# Altium integrated library Analog Devices Data Converters Digital-to-Analog Converters.IntLib: 2231 symbols (part 84 of 181)
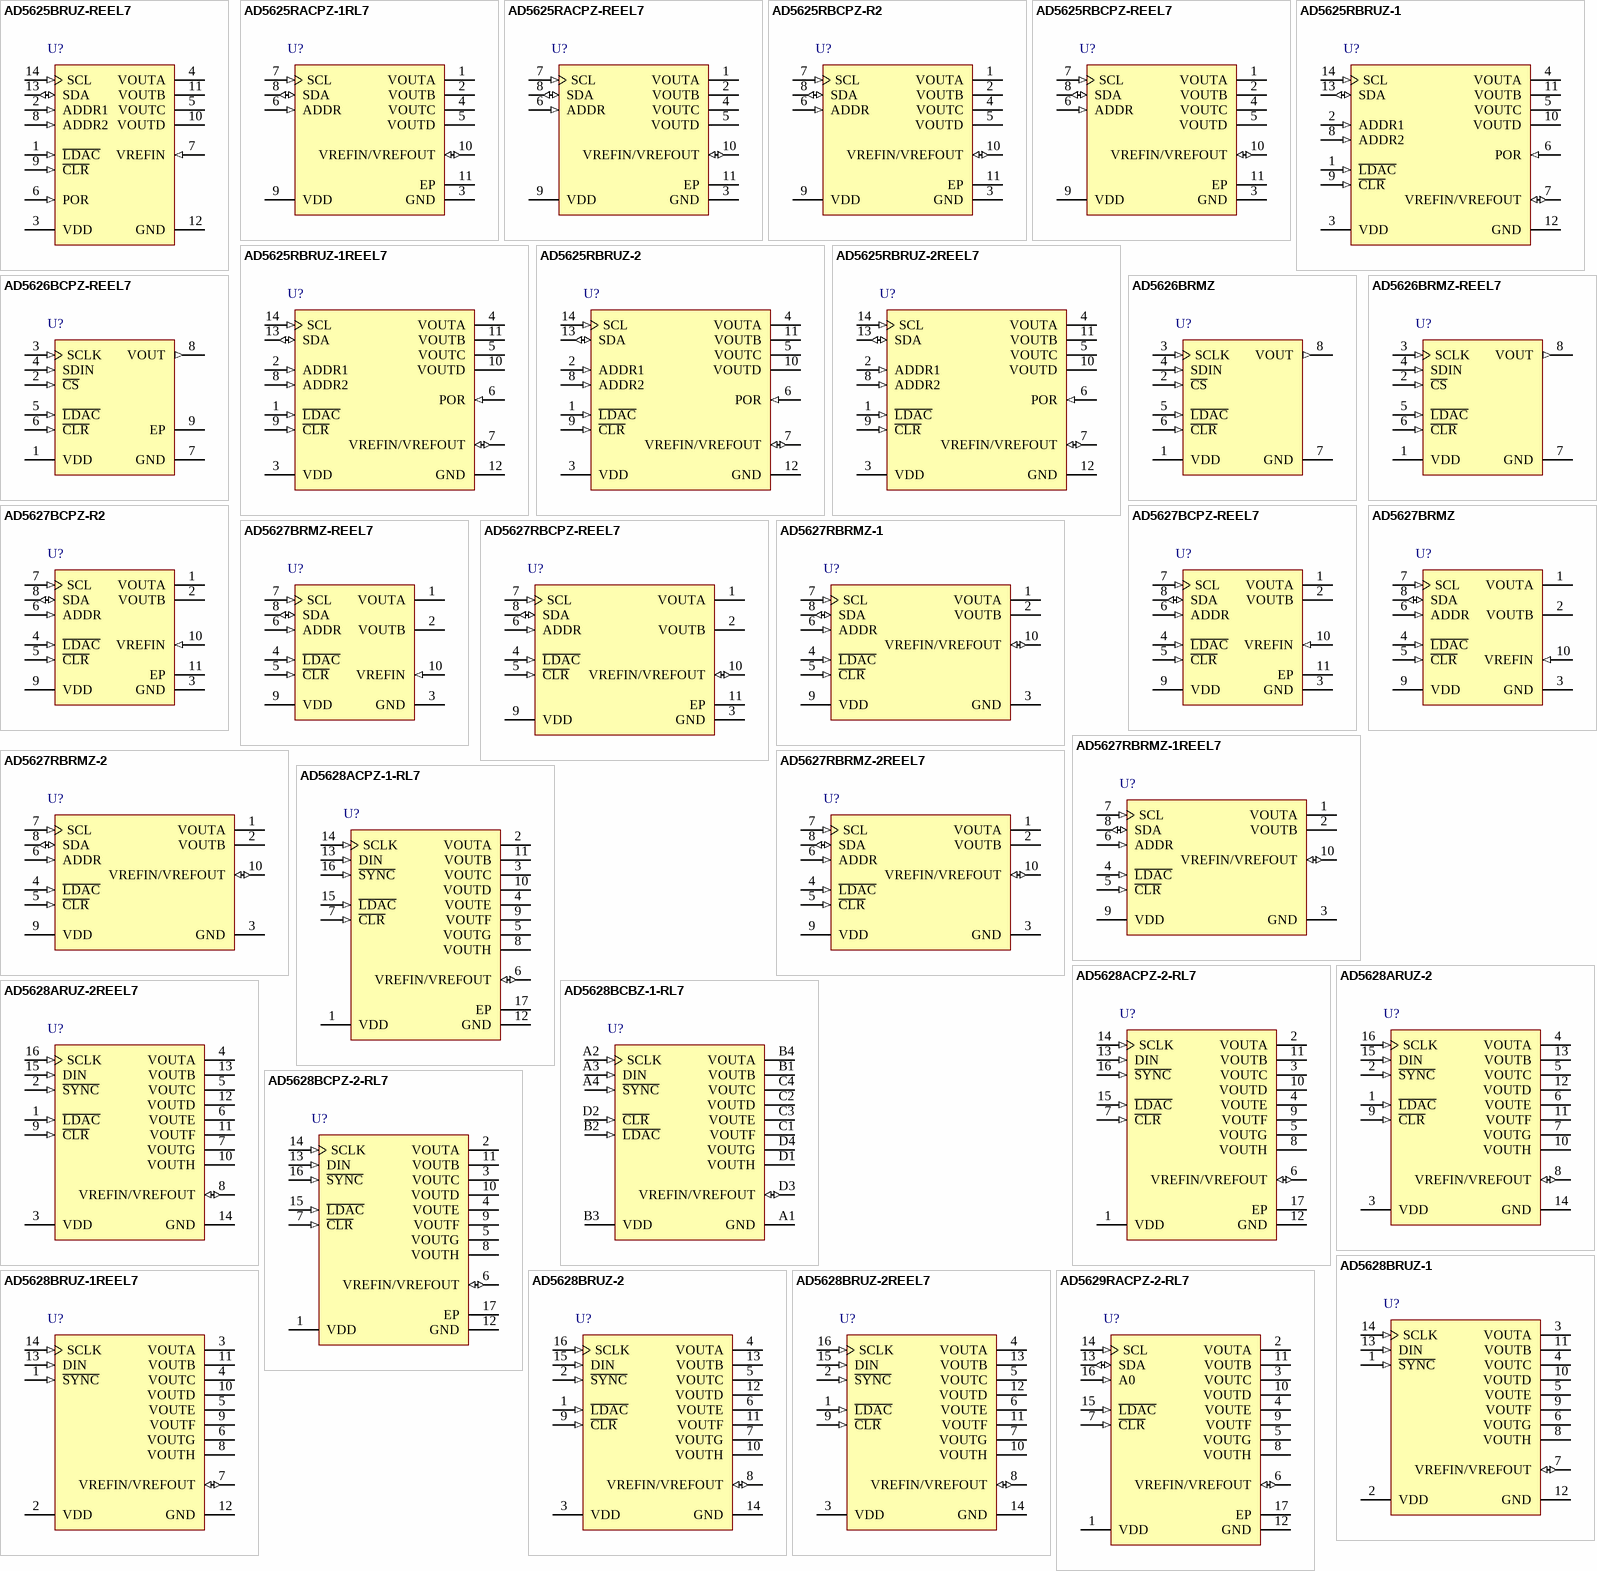
[diagram p197: symbols AD5625BRUZ-REEL7 to AD5629RACPZ-2-RL7]

## AD5627RBRMZ-2
designator U?
Dual 12-Bit nanoDAC with I2C Interface and 5 ppm/degC On-Chip Reference, -40 to +105 degC, RM-10, Pb-Free, Tube; Generic Part Number: AD5627R; Manufacturer: Analog Devices; PartNumber: AD5627RBRMZ-2; # DAC Outputs: 2; Max V+: 5.5V; Op Pwr Diss: 5.75mW; Resolution (Bits): 12; Settling Time: 3µs; Single Supply: Yes; DatasheetVersion: Rev.0; PackageVersion: May-2005; PackageReference: RM-10; PackageDescription: 10-Lead Mini Small Outline Package [MSOP]; Supplier 1: Digi-Key; Supplier Part Number 1: AD5627RBRMZ-2-ND; Supplier 2: Farnell; Supplier Part Number 2: 1438919; Supplier 3: Newark; Supplier Part Number 3: 15P0704; Supplier 4: Mouser; Supplier Part Number 4: 584-AD5627RBRMZ-2; Packing: Tube; RoHS: Y; Mounting Technology: Surface Mount; ComponentLink1Description: Manufacturer URL; ComponentLink1URL: http://www.analog.com/en/index.html; ComponentLink2Description: Datasheet; ComponentLink2URL: http://www.analog.com/static/imported-files/data_sheets/AD5627R_5647R_5667R_5627_5667.pdf; ComponentLink3Description: Package Specification; ComponentLink3URL: http://www.analog.com/static/imported-files/packages/PKG_PDF/MSOP%28RM%29/RM_10.pdf; ComponentLink4Description: Product URL; ComponentLink4URL: http://www.analog.com/en/digital-to-analog-converters/da-converters/ad5627r/products/product.html
footprint RM-10_N (TSSOP, 10-Leads, Body 3x3mm, Pitch 0.5mm, IPC Medium Density)
footprint RM-10_L (TSSOP, 10-Leads, Body 3x3mm, Pitch 0.5mm, IPC High Density)
footprint RM-10_M (TSSOP, 10-Leads, Body 3x3mm, Pitch 0.5mm, IPC Low Density)
pins: 1 VOUTA (hiz) "Analog Output Voltage from DAC A. The output amplifier has rail-to-rail operation.", 2 VOUTB (hiz) "Analog Output Voltage from DAC B. The output amplifier has rail-to-rail operation.", 3 GND (power) "Ground reference point for all circuitry on the part.", 4 ~{LDAC} (in) "Pulsing this pin low allows any or all DAC registers to be updated if the inputs have new data. This allows simultaneous updates of all DAC outputs. Alternatively, this pin can be tied permanently low.", 5 ~{CLR} (in) "Asynchronous Clear Input. The C\L\R\ input is falling-edge sensitive. While C\L\R\ is low, all LDAC pulses are ignored. When C\L\R\ is activated, zero scale is loaded to all input and DAC registers. This clears the output to (See Datasheet)", 6 ADDR (in) "Three-State Address Input. Sets the two least significant bits (Bit A1, Bit A0) of the 7-bit slave address.", 7 SCL (in) "Serial Clock Line. This is used in conjunction with the SDA line to clock data into or out of the 24-bit input register.", 8 SDA (io) "Serial Data Line. This is used in conjunction with the SCL line to clock data into or out of the 24-bit input register. It is a bidirectional, open-drain data line that should be pulled to the supply with an external pull-up (See Datasheet)", 9 VDD (power) "Power Supply Input. These parts can be operated from 2.7 V to 5.5 V, and the supply should be decoupled with a 10 µF capacitor in parallel with a 0.1 µF capacitor to GND.", 10 VREFIN/VREFOUT (io) "The AD5627R have a common pin for reference input and reference output. When using the internal reference, this is the reference output pin. When using an external reference, this is the reference input pin. The default for (See Datasheet)"

## AD5627RBRMZ-2REEL7
designator U?
Dual 12-Bit nanoDAC with I2C Interface and 5 ppm/degC On-Chip Reference, -40 to +105 degC, RM-10, Pb-Free, Reel; Generic Part Number: AD5627R; Manufacturer: Analog Devices; PartNumber: AD5627RBRMZ-2REEL7; # DAC Outputs: 2; Max V+: 5.5V; Op Pwr Diss: 5.75mW; Resolution (Bits): 12; Settling Time: 3µs; Single Supply: Yes; DatasheetVersion: Rev.0; PackageVersion: May-2005; PackageReference: RM-10; PackageDescription: 10-Lead Mini Small Outline Package [MSOP]; Supplier 1: Digi-Key; Supplier Part Number 1: AD5627RBRMZ-2REEL7-ND; Supplier 2: Mouser; Supplier Part Number 2: 584-AD5627RBRMZ2R7; Packing: Reel; RoHS: Y; Mounting Technology: Surface Mount; ComponentLink1Description: Manufacturer URL; ComponentLink1URL: http://www.analog.com/en/index.html; ComponentLink2Description: Datasheet; ComponentLink2URL: http://www.analog.com/static/imported-files/data_sheets/AD5627R_5647R_5667R_5627_5667.pdf; ComponentLink3Description: Package Specification; ComponentLink3URL: http://www.analog.com/static/imported-files/packages/PKG_PDF/MSOP%28RM%29/RM_10.pdf; ComponentLink4Description: Product URL; ComponentLink4URL: http://www.analog.com/en/digital-to-analog-converters/da-converters/ad5627r/products/product.html
footprint RM-10_N (TSSOP, 10-Leads, Body 3x3mm, Pitch 0.5mm, IPC Medium Density)
footprint RM-10_L (TSSOP, 10-Leads, Body 3x3mm, Pitch 0.5mm, IPC High Density)
footprint RM-10_M (TSSOP, 10-Leads, Body 3x3mm, Pitch 0.5mm, IPC Low Density)
pins: 1 VOUTA (hiz) "Analog Output Voltage from DAC A. The output amplifier has rail-to-rail operation.", 2 VOUTB (hiz) "Analog Output Voltage from DAC B. The output amplifier has rail-to-rail operation.", 3 GND (power) "Ground reference point for all circuitry on the part.", 4 ~{LDAC} (in) "Pulsing this pin low allows any or all DAC registers to be updated if the inputs have new data. This allows simultaneous updates of all DAC outputs. Alternatively, this pin can be tied permanently low.", 5 ~{CLR} (in) "Asynchronous Clear Input. The C\L\R\ input is falling-edge sensitive. While C\L\R\ is low, all LDAC pulses are ignored. When C\L\R\ is activated, zero scale is loaded to all input and DAC registers. This clears the output to (See Datasheet)", 6 ADDR (in) "Three-State Address Input. Sets the two least significant bits (Bit A1, Bit A0) of the 7-bit slave address.", 7 SCL (in) "Serial Clock Line. This is used in conjunction with the SDA line to clock data into or out of the 24-bit input register.", 8 SDA (io) "Serial Data Line. This is used in conjunction with the SCL line to clock data into or out of the 24-bit input register. It is a bidirectional, open-drain data line that should be pulled to the supply with an external pull-up (See Datasheet)", 9 VDD (power) "Power Supply Input. These parts can be operated from 2.7 V to 5.5 V, and the supply should be decoupled with a 10 µF capacitor in parallel with a 0.1 µF capacitor to GND.", 10 VREFIN/VREFOUT (io) "The AD5627R have a common pin for reference input and reference output. When using the internal reference, this is the reference output pin. When using an external reference, this is the reference input pin. The default for (See Datasheet)"

## AD5628ACPZ-1-RL7
designator U?
Octal 12-Bit Voltage Output denseDAC with SPI Interface and 5 ppm/degC On-Chip Reference, -40 to +105 degC, CP-16-17, Pb-Free, Reel; Generic Part Number: AD5628; Manufacturer: Analog Devices; PartNumber: AD5628ACPZ-1-RL7; # DAC Outputs: 8; Max V+: 5.5V; Op Pwr Diss: 12.5mW; Resolution (Bits): 12; Settling Time: 6µs; Single Supply: Yes; DatasheetVersion: Rev.F; PackageVersion: 08-16-2010-C; PackageReference: CP-16-17; PackageDescription: 16-Lead Lead Frame Chip Scale Package [LFCSP_WQ] 4 x 4 mm Body, Very Very Thin Quad; Supplier 1: Digi-Key; Supplier Part Number 1: AD5628ACPZ-1-RL7TR-ND; Supplier 2: Digi-Key; Supplier Part Number 2: AD5628ACPZ-1-RL7CT-ND; Supplier 3: Digi-Key; Supplier Part Number 3: AD5628ACPZ-1-RL7DKR-ND; Supplier 4: Newark; Supplier Part Number 4: 23T4181; Supplier 5: Mouser; Supplier Part Number 5: 584-AD5628ACPZ-1-R7; Packing: Reel; RoHS: Y; Mounting Technology: Surface Mount; Code_JEDEC: MO-220-WGGC; ComponentLink1Description: Manufacturer URL; ComponentLink1URL: http://www.analog.com/en/index.html; ComponentLink2Description: Datasheet; ComponentLink2URL: http://www.analog.com/static/imported-files/data_sheets/AD5628_5648_5668.pdf; ComponentLink3Description: Package Specification; ComponentLink3URL: http://www.analog.com/static/imported-files/packages/PKG_PDF/LFCSP(CP)/CP_16_17.pdf; ComponentLink4Description: Product URL; ComponentLink4URL: http://www.analog.com/en/digital-to-analog-converters/da-converters/ad5628/products/product.html
footprint CP-16-17_N (QFN, 16-Leads, Body 4x4mm, Pitch 0.65mm, Thermal Pad 2.6x2.6mm, IPC Medium Density)
footprint CP-16-17_L (QFN, 16-Leads, Body 4x4mm, Pitch 0.65mm, Thermal Pad 2.6x2.6mm, IPC High Density)
footprint CP-16-17_M (QFN, 16-Leads, Body 4x4mm, Pitch 0.65mm, Thermal Pad 2.6x2.6mm, IPC Low Density)
pins: 1 VDD (power) "Power Supply Input. These parts can be operated from 2.7 V to 5.5 V, and the supply should be decoupled with a 10 µF capacitor in parallel with a 0.1 uF capacitor to GND.", 2 VOUTA (hiz) "Analog Output Voltage from DAC A. The output amplifier has rail-to-rail operation.", 3 VOUTC (hiz) "Analog Output Voltage from DAC C. The output amplifier has rail-to-rail operation.", 4 VOUTE (hiz) "Analog Output Voltage from DAC E. The output amplifier has rail-to-rail operation.", 5 VOUTG (hiz) "Analog Output Voltage from DAC G. The output amplifier has rail-to-rail operation.", 6 VREFIN/VREFOUT (io) "The AD5628 have a common pin for reference input and reference output. When using the internal reference, this is the reference output pin. When using an external reference, this is the reference input pin. The default for (See Datasheet)", 7 ~{CLR} (in) "Asynchronous Clear Input. The C\L\R\ input is falling edge sensitive. When C\L\R\ is low, all L\D\A\C\ pulses are ignored. When C\L\R\ is activated, the input register and the DAC register are updated with the data contained (See Datasheet)", 8 VOUTH (hiz) "Analog Output Voltage from DAC H. The output amplifier has rail-to-rail operation.", 9 VOUTF (hiz) "Analog Output Voltage from DAC F. The output amplifier has rail-to-rail operation.", 10 VOUTD (hiz) "Analog Output Voltage from DAC D. The output amplifier has rail-to-rail operation.", 11 VOUTB (hiz) "Analog Output Voltage from DAC B. The output amplifier has rail-to-rail operation.", 12 GND (power) "Ground Reference Point for All Circuitry on the Part.", 13 DIN (in) "Serial Data Input. This device has a 32-bit shift register. Data is clocked into the register on the falling edge of the serial clock input.", 14 SCLK (in) "Serial Clock Input. Data is clocked into the input shift register on the falling edge of the serial clock input. Data can be transferred at rates of up to 50 MHz.", 15 ~{LDAC} (in) "Pulsing this pin low allows any or all DAC registers to be updated if the input registers have new data. This allows all DAC outputs to simultaneously update. Alternatively, this pin can be tied permanently low.", 16 ~{SYNC} (in) "Active Low Control Input. This is the frame synchronization signal for the input data.When S\Y\N\C\ goes low, it powers on the SCLK and DIN buffers and enables the input shift register. Data is transferred in on the falling (See Datasheet)", 17 EP (power) "It is recommended that the exposed paddle be soldered to the ground plane."

## AD5628ACPZ-2-RL7
designator U?
Octal 12-Bit Voltage Output denseDAC with SPI Interface and 5 ppm/degC On-Chip Reference, -40 to +105 degC, CP-16-17, Pb-Free, Reel; Generic Part Number: AD5628; Manufacturer: Analog Devices; PartNumber: AD5628ACPZ-2-RL7; # DAC Outputs: 8; Max V+: 5.5V; Op Pwr Diss: 12.5mW; Resolution (Bits): 12; Settling Time: 6µs; Single Supply: Yes; DatasheetVersion: Rev.F; PackageVersion: 08-16-2010-C; PackageReference: CP-16-17; PackageDescription: 16-Lead Lead Frame Chip Scale Package [LFCSP_WQ] 4 x 4 mm Body, Very Very Thin Quad; Supplier 1: Digi-Key; Supplier Part Number 1: AD5628ACPZ-2-RL7TR-ND; Supplier 2: Digi-Key; Supplier Part Number 2: AD5628ACPZ-2-RL7CT-ND; Supplier 3: Digi-Key; Supplier Part Number 3: AD5628ACPZ-2-RL7DKR-ND; Supplier 4: Mouser; Supplier Part Number 4: 584-AD5628ACPZ-2-R7; Packing: Reel; RoHS: Y; Mounting Technology: Surface Mount; Code_JEDEC: MO-220-WGGC; ComponentLink1Description: Manufacturer URL; ComponentLink1URL: http://www.analog.com/en/index.html; ComponentLink2Description: Datasheet; ComponentLink2URL: http://www.analog.com/static/imported-files/data_sheets/AD5628_5648_5668.pdf; ComponentLink3Description: Package Specification; ComponentLink3URL: http://www.analog.com/static/imported-files/packages/PKG_PDF/LFCSP(CP)/CP_16_17.pdf; ComponentLink4Description: Product URL; ComponentLink4URL: http://www.analog.com/en/digital-to-analog-converters/da-converters/ad5628/products/product.html
footprint CP-16-17_N (QFN, 16-Leads, Body 4x4mm, Pitch 0.65mm, Thermal Pad 2.6x2.6mm, IPC Medium Density)
footprint CP-16-17_L (QFN, 16-Leads, Body 4x4mm, Pitch 0.65mm, Thermal Pad 2.6x2.6mm, IPC High Density)
footprint CP-16-17_M (QFN, 16-Leads, Body 4x4mm, Pitch 0.65mm, Thermal Pad 2.6x2.6mm, IPC Low Density)
pins: 1 VDD (power) "Power Supply Input. These parts can be operated from 2.7 V to 5.5 V, and the supply should be decoupled with a 10 µF capacitor in parallel with a 0.1 uF capacitor to GND.", 2 VOUTA (hiz) "Analog Output Voltage from DAC A. The output amplifier has rail-to-rail operation.", 3 VOUTC (hiz) "Analog Output Voltage from DAC C. The output amplifier has rail-to-rail operation.", 4 VOUTE (hiz) "Analog Output Voltage from DAC E. The output amplifier has rail-to-rail operation.", 5 VOUTG (hiz) "Analog Output Voltage from DAC G. The output amplifier has rail-to-rail operation.", 6 VREFIN/VREFOUT (io) "The AD5628 have a common pin for reference input and reference output. When using the internal reference, this is the reference output pin. When using an external reference, this is the reference input pin. The default for (See Datasheet)", 7 ~{CLR} (in) "Asynchronous Clear Input. The C\L\R\ input is falling edge sensitive. When C\L\R\ is low, all L\D\A\C\ pulses are ignored. When C\L\R\ is activated, the input register and the DAC register are updated with the data contained (See Datasheet)", 8 VOUTH (hiz) "Analog Output Voltage from DAC H. The output amplifier has rail-to-rail operation.", 9 VOUTF (hiz) "Analog Output Voltage from DAC F. The output amplifier has rail-to-rail operation.", 10 VOUTD (hiz) "Analog Output Voltage from DAC D. The output amplifier has rail-to-rail operation.", 11 VOUTB (hiz) "Analog Output Voltage from DAC B. The output amplifier has rail-to-rail operation.", 12 GND (power) "Ground Reference Point for All Circuitry on the Part.", 13 DIN (in) "Serial Data Input. This device has a 32-bit shift register. Data is clocked into the register on the falling edge of the serial clock input.", 14 SCLK (in) "Serial Clock Input. Data is clocked into the input shift register on the falling edge of the serial clock input. Data can be transferred at rates of up to 50 MHz.", 15 ~{LDAC} (in) "Pulsing this pin low allows any or all DAC registers to be updated if the input registers have new data. This allows all DAC outputs to simultaneously update. Alternatively, this pin can be tied permanently low.", 16 ~{SYNC} (in) "Active Low Control Input. This is the frame synchronization signal for the input data.When S\Y\N\C\ goes low, it powers on the SCLK and DIN buffers and enables the input shift register. Data is transferred in on the falling (See Datasheet)", 17 EP (power) "It is recommended that the exposed paddle be soldered to the ground plane."

## AD5628ARUZ-2
designator U?
Octal 12-Bit Voltage Output denseDAC with SPI Interface and 5 ppm/degC On-Chip Reference, -40 to +105 degC, RU-16, Pb-Free, Tube; Generic Part Number: AD5628; Manufacturer: Analog Devices; PartNumber: AD5628ARUZ-2; # DAC Outputs: 8; Max V+: 5.5V; Op Pwr Diss: 12.5mW; Resolution (Bits): 12; Settling Time: 6µs; Single Supply: Yes; DatasheetVersion: Rev.F; PackageVersion: Nov-2002; PackageReference: RU-16; PackageDescription: 16-Lead Thin Shrink Small Outline Package [TSSOP]; Supplier 1: Digi-Key; Supplier Part Number 1: AD5628ARUZ-2-ND; Supplier 2: Newark; Supplier Part Number 2: 12M8592; Supplier 3: Mouser; Supplier Part Number 3: 584-AD5628ARUZ-2; Packing: Tube; RoHS: Y; Mounting Technology: Surface Mount; Code_JEDEC: MO-153-AB; ComponentLink1Description: Manufacturer URL; ComponentLink1URL: http://www.analog.com/en/index.html; ComponentLink2Description: Datasheet; ComponentLink2URL: http://www.analog.com/static/imported-files/data_sheets/AD5628_5648_5668.pdf; ComponentLink3Description: Package Specification; ComponentLink3URL: http://www.analog.com/static/imported-files/packages/36244347913743854010197452789RU16.pdf; ComponentLink4Description: Product URL; ComponentLink4URL: http://www.analog.com/en/digital-to-analog-converters/da-converters/ad5628/products/product.html
footprint RU-16_N (TSOP, 16-Leads, Body 5x4.4mm, Pitch 0.65mm, IPC Medium Density)
footprint RU-16_L (TSOP, 16-Leads, Body 5x4.4mm, Pitch 0.65mm, IPC High Density)
footprint RU-16_M (TSOP, 16-Leads, Body 5x4.4mm, Pitch 0.65mm, IPC Low Density)
pins: 1 ~{LDAC} (in) "Pulsing this pin low allows any or all DAC registers to be updated if the input registers have new data. This allows all DAC outputs to simultaneously update. Alternatively, this pin can be tied permanently low.", 2 ~{SYNC} (in) "Active Low Control Input. This is the frame synchronization signal for the input data.When S\Y\N\C\ goes low, it powers on the SCLK and DIN buffers and enables the input shift register. Data is transferred in on the falling (See Datasheet)", 3 VDD (power) "Power Supply Input. These parts can be operated from 2.7 V to 5.5 V, and the supply should be decoupled with a 10 µF capacitor in parallel with a 0.1 uF capacitor to GND.", 4 VOUTA (hiz) "Analog Output Voltage from DAC A. The output amplifier has rail-to-rail operation.", 5 VOUTC (hiz) "Analog Output Voltage from DAC C. The output amplifier has rail-to-rail operation.", 6 VOUTE (hiz) "Analog Output Voltage from DAC E. The output amplifier has rail-to-rail operation.", 7 VOUTG (hiz) "Analog Output Voltage from DAC G. The output amplifier has rail-to-rail operation.", 8 VREFIN/VREFOUT (io) "The AD5628 have a common pin for reference input and reference output. When using the internal reference, this is the reference output pin. When using an external reference, this is the reference input pin. The default for (See Datasheet)", 9 ~{CLR} (in) "Asynchronous Clear Input. The C\L\R\ input is falling edge sensitive. When C\L\R\ is low, all L\D\A\C\ pulses are ignored. When C\L\R\ is activated, the input register and the DAC register are updated with the data contained (See Datasheet)", 10 VOUTH (hiz) "Analog Output Voltage from DAC H. The output amplifier has rail-to-rail operation.", 11 VOUTF (hiz) "Analog Output Voltage from DAC F. The output amplifier has rail-to-rail operation.", 12 VOUTD (hiz) "Analog Output Voltage from DAC D. The output amplifier has rail-to-rail operation.", 13 VOUTB (hiz) "Analog Output Voltage from DAC B. The output amplifier has rail-to-rail operation.", 14 GND (power) "Ground Reference Point for All Circuitry on the Part.", 15 DIN (in) "Serial Data Input. This device has a 32-bit shift register. Data is clocked into the register on the falling edge of the serial clock input.", 16 SCLK (in) "Serial Clock Input. Data is clocked into the input shift register on the falling edge of the serial clock input. Data can be transferred at rates of up to 50 MHz."

## AD5628ARUZ-2REEL7
designator U?
Octal 12-Bit Voltage Output denseDAC with SPI Interface and 5 ppm/degC On-Chip Reference, -40 to +105 degC, RU-16, Pb-Free, Reel; Generic Part Number: AD5628; Manufacturer: Analog Devices; PartNumber: AD5628ARUZ-2REEL7; # DAC Outputs: 8; Max V+: 5.5V; Op Pwr Diss: 12.5mW; Resolution (Bits): 12; Settling Time: 6µs; Single Supply: Yes; DatasheetVersion: Rev.F; PackageVersion: Nov-2002; PackageReference: RU-16; PackageDescription: 16-Lead Thin Shrink Small Outline Package [TSSOP]; Supplier 1: Digi-Key; Supplier Part Number 1: AD5628ARUZ-2REEL7-ND; Supplier 2: Mouser; Supplier Part Number 2: 584-AD5628ARUZ-2R7; Packing: Reel; RoHS: Y; Mounting Technology: Surface Mount; Code_JEDEC: MO-153-AB; ComponentLink1Description: Manufacturer URL; ComponentLink1URL: http://www.analog.com/en/index.html; ComponentLink2Description: Datasheet; ComponentLink2URL: http://www.analog.com/static/imported-files/data_sheets/AD5628_5648_5668.pdf; ComponentLink3Description: Package Specification; ComponentLink3URL: http://www.analog.com/static/imported-files/packages/36244347913743854010197452789RU16.pdf; ComponentLink4Description: Product URL; ComponentLink4URL: http://www.analog.com/en/digital-to-analog-converters/da-converters/ad5628/products/product.html
footprint RU-16_N (TSOP, 16-Leads, Body 5x4.4mm, Pitch 0.65mm, IPC Medium Density)
footprint RU-16_L (TSOP, 16-Leads, Body 5x4.4mm, Pitch 0.65mm, IPC High Density)
footprint RU-16_M (TSOP, 16-Leads, Body 5x4.4mm, Pitch 0.65mm, IPC Low Density)
pins: 1 ~{LDAC} (in) "Pulsing this pin low allows any or all DAC registers to be updated if the input registers have new data. This allows all DAC outputs to simultaneously update. Alternatively, this pin can be tied permanently low.", 2 ~{SYNC} (in) "Active Low Control Input. This is the frame synchronization signal for the input data.When S\Y\N\C\ goes low, it powers on the SCLK and DIN buffers and enables the input shift register. Data is transferred in on the falling (See Datasheet)", 3 VDD (power) "Power Supply Input. These parts can be operated from 2.7 V to 5.5 V, and the supply should be decoupled with a 10 µF capacitor in parallel with a 0.1 uF capacitor to GND.", 4 VOUTA (hiz) "Analog Output Voltage from DAC A. The output amplifier has rail-to-rail operation.", 5 VOUTC (hiz) "Analog Output Voltage from DAC C. The output amplifier has rail-to-rail operation.", 6 VOUTE (hiz) "Analog Output Voltage from DAC E. The output amplifier has rail-to-rail operation.", 7 VOUTG (hiz) "Analog Output Voltage from DAC G. The output amplifier has rail-to-rail operation.", 8 VREFIN/VREFOUT (io) "The AD5628 have a common pin for reference input and reference output. When using the internal reference, this is the reference output pin. When using an external reference, this is the reference input pin. The default for (See Datasheet)", 9 ~{CLR} (in) "Asynchronous Clear Input. The C\L\R\ input is falling edge sensitive. When C\L\R\ is low, all L\D\A\C\ pulses are ignored. When C\L\R\ is activated, the input register and the DAC register are updated with the data contained (See Datasheet)", 10 VOUTH (hiz) "Analog Output Voltage from DAC H. The output amplifier has rail-to-rail operation.", 11 VOUTF (hiz) "Analog Output Voltage from DAC F. The output amplifier has rail-to-rail operation.", 12 VOUTD (hiz) "Analog Output Voltage from DAC D. The output amplifier has rail-to-rail operation.", 13 VOUTB (hiz) "Analog Output Voltage from DAC B. The output amplifier has rail-to-rail operation.", 14 GND (power) "Ground Reference Point for All Circuitry on the Part.", 15 DIN (in) "Serial Data Input. This device has a 32-bit shift register. Data is clocked into the register on the falling edge of the serial clock input.", 16 SCLK (in) "Serial Clock Input. Data is clocked into the input shift register on the falling edge of the serial clock input. Data can be transferred at rates of up to 50 MHz."

## AD5628BCBZ-1-RL7
designator U?
Octal 12-Bit Voltage Output denseDAC with SPI Interface and 5 ppm/degC On-Chip Reference, -40 to +105 degC, CB-16-16, Pb-Free, Reel; Generic Part Number: AD5628; Manufacturer: Analog Devices; PartNumber: AD5628BCBZ-1-RL7; # DAC Outputs: 8; Max V+: 5.5V; Op Pwr Diss: 12.5mW; Resolution (Bits): 12; Settling Time: 6µs; Single Supply: Yes; DatasheetVersion: Rev.F; PackageVersion: 08-16-2011-A; PackageReference: CB-16-16; PackageDescription: 16-Ball Wafer Level Chip Scale Package [WLCSP]; Supplier 1: Digi-Key; Supplier Part Number 1: AD5628BCBZ-1-RL7TR-ND; Supplier 2: Digi-Key; Supplier Part Number 2: AD5628BCBZ-1-RL7CT-ND; Supplier 3: Digi-Key; Supplier Part Number 3: AD5628BCBZ-1-RL7DKR-ND; Supplier 4: Mouser; Supplier Part Number 4: 584-AD5628BCBZ-1-R7; Packing: Reel; RoHS: Y; Mounting Technology: Surface Mount; ComponentLink1Description: Manufacturer URL; ComponentLink1URL: http://www.analog.com/en/index.html; ComponentLink2Description: Datasheet; ComponentLink2URL: http://www.analog.com/static/imported-files/data_sheets/AD5628_5648_5668.pdf; ComponentLink3Description: Package Specification; ComponentLink3URL: http://www.analog.com/static/imported-files/data_sheets/AD5628_5648_5668.pdf; ComponentLink4Description: Product URL; ComponentLink4URL: http://www.analog.com/en/digital-to-analog-converters/da-converters/ad5628/products/product.html
footprint CB-16-16 (BGA, 16-Leads, Body 2.61x2.61mm, Pitch 0.5mm)
pins: A1 GND (power) "Ground Reference Point for All Circuitry on the Part.", A2 SCLK (in) "Serial Clock Input. Data is clocked into the input shift register on the falling edge of the serial clock input. Data can be transferred at rates of up to 50 MHz.", A3 DIN (in) "Serial Data Input. This device has a 32-bit shift register. Data is clocked into the register on the falling edge of the serial clock input.", A4 ~{SYNC} (in) "Active Low Control Input. This is the frame synchronization signal for the input data. When S\Y\N\C\ goes low, it powers on the SCLK and DIN buffers and enables the input shift register. Data is transferred in on the falling (See Datasheet)", B1 VOUTB (hiz) "Analog Output Voltage from DAC B. The output amplifier has rail-to-rail operation.", B2 ~{LDAC} (in) "Pulsing this pin low allows any or all DAC registers to be updated if the input registers have new data. This allows all DAC outputs to simultaneously update. Alternatively, this pin can be tied permanently low.", B3 VDD (power) "Power Supply Input. These parts can be operated from 2.7 V to 5.5 V, and the supply should be decoupled with a 10 uF capacitor in parallel with a 0.1 uF capacitor to GND.", B4 VOUTA (hiz) "Analog Output Voltage from DAC A. The output amplifier has rail-to-rail operation.", C1 VOUTF (hiz) "Analog Output Voltage from DAC F. The output amplifier has rail-to-rail operation.", C2 VOUTD (hiz) "Analog Output Voltage from DAC D. The output amplifier has rail-to-rail operation.", C3 VOUTE (hiz) "Analog Output Voltage from DAC E. The output amplifier has rail-to-rail operation.", C4 VOUTC (hiz) "Analog Output Voltage from DAC C. The output amplifier has rail-to-rail operation.", D1 VOUTH (hiz) "Analog Output Voltage from DAC H. The output amplifier has rail-to-rail operation.", D2 ~{CLR} (in) "Asynchronous Clear Input. The C\L\R\ input is falling edge sensitive. When C\L\R\ is low, all L\D\A\C\ pulses are ignored.When CLR is activated, the input register and the DAC register are updated with the data contained in (See Datasheet)", D3 VREFIN/VREFOUT (io) "The AD5628 have a common pin for reference input and reference output. When using the internal reference, this is the reference output pin. When using an external reference, this is the reference input pin. The default for (See Datasheet)", D4 VOUTG (hiz) "Analog Output Voltage from DAC G. The output amplifier has rail-to-rail operation."

## AD5628BCPZ-2-RL7
designator U?
Octal 12-Bit Voltage Output denseDAC with SPI Interface and 5 ppm/degC On-Chip Reference, -40 to +105 degC, CP-16-17, Pb-Free, Reel; Generic Part Number: AD5628; Manufacturer: Analog Devices; PartNumber: AD5628BCPZ-2-RL7; # DAC Outputs: 8; Max V+: 5.5V; Op Pwr Diss: 12.5mW; Resolution (Bits): 12; Settling Time: 6µs; Single Supply: Yes; DatasheetVersion: Rev.F; PackageVersion: 08-16-2010-C; PackageReference: CP-16-17; PackageDescription: 16-Lead Lead Frame Chip Scale Package [LFCSP_WQ] 4 x 4 mm Body, Very Very Thin Quad; Supplier 1: Digi-Key; Supplier Part Number 1: AD5628BCPZ-2-RL7TR-ND; Supplier 2: Digi-Key; Supplier Part Number 2: AD5628BCPZ-2-RL7CT-ND; Supplier 3: Digi-Key; Supplier Part Number 3: AD5628BCPZ-2-RL7DKR-ND; Supplier 4: Mouser; Supplier Part Number 4: 584-AD5628BCPZ-2-R7; Packing: Reel; RoHS: Y; Mounting Technology: Surface Mount; Code_JEDEC: MO-220-WGGC; ComponentLink1Description: Manufacturer URL; ComponentLink1URL: http://www.analog.com/en/index.html; ComponentLink2Description: Datasheet; ComponentLink2URL: http://www.analog.com/static/imported-files/data_sheets/AD5628_5648_5668.pdf; ComponentLink3Description: Package Specification; ComponentLink3URL: http://www.analog.com/static/imported-files/packages/PKG_PDF/LFCSP(CP)/CP_16_17.pdf; ComponentLink4Description: Product URL; ComponentLink4URL: http://www.analog.com/en/digital-to-analog-converters/da-converters/ad5628/products/product.html
footprint CP-16-17_N (QFN, 16-Leads, Body 4x4mm, Pitch 0.65mm, Thermal Pad 2.6x2.6mm, IPC Medium Density)
footprint CP-16-17_L (QFN, 16-Leads, Body 4x4mm, Pitch 0.65mm, Thermal Pad 2.6x2.6mm, IPC High Density)
footprint CP-16-17_M (QFN, 16-Leads, Body 4x4mm, Pitch 0.65mm, Thermal Pad 2.6x2.6mm, IPC Low Density)
pins: 1 VDD (power) "Power Supply Input. These parts can be operated from 2.7 V to 5.5 V, and the supply should be decoupled with a 10 µF capacitor in parallel with a 0.1 uF capacitor to GND.", 2 VOUTA (hiz) "Analog Output Voltage from DAC A. The output amplifier has rail-to-rail operation.", 3 VOUTC (hiz) "Analog Output Voltage from DAC C. The output amplifier has rail-to-rail operation.", 4 VOUTE (hiz) "Analog Output Voltage from DAC E. The output amplifier has rail-to-rail operation.", 5 VOUTG (hiz) "Analog Output Voltage from DAC G. The output amplifier has rail-to-rail operation.", 6 VREFIN/VREFOUT (io) "The AD5628 have a common pin for reference input and reference output. When using the internal reference, this is the reference output pin. When using an external reference, this is the reference input pin. The default for (See Datasheet)", 7 ~{CLR} (in) "Asynchronous Clear Input. The C\L\R\ input is falling edge sensitive. When C\L\R\ is low, all L\D\A\C\ pulses are ignored. When C\L\R\ is activated, the input register and the DAC register are updated with the data contained (See Datasheet)", 8 VOUTH (hiz) "Analog Output Voltage from DAC H. The output amplifier has rail-to-rail operation.", 9 VOUTF (hiz) "Analog Output Voltage from DAC F. The output amplifier has rail-to-rail operation.", 10 VOUTD (hiz) "Analog Output Voltage from DAC D. The output amplifier has rail-to-rail operation.", 11 VOUTB (hiz) "Analog Output Voltage from DAC B. The output amplifier has rail-to-rail operation.", 12 GND (power) "Ground Reference Point for All Circuitry on the Part.", 13 DIN (in) "Serial Data Input. This device has a 32-bit shift register. Data is clocked into the register on the falling edge of the serial clock input.", 14 SCLK (in) "Serial Clock Input. Data is clocked into the input shift register on the falling edge of the serial clock input. Data can be transferred at rates of up to 50 MHz.", 15 ~{LDAC} (in) "Pulsing this pin low allows any or all DAC registers to be updated if the input registers have new data. This allows all DAC outputs to simultaneously update. Alternatively, this pin can be tied permanently low.", 16 ~{SYNC} (in) "Active Low Control Input. This is the frame synchronization signal for the input data.When S\Y\N\C\ goes low, it powers on the SCLK and DIN buffers and enables the input shift register. Data is transferred in on the falling (See Datasheet)", 17 EP (power) "It is recommended that the exposed paddle be soldered to the ground plane."

## AD5628BRUZ-1
designator U?
Octal 12-Bit Voltage Output denseDAC with SPI Interface and 5 ppm/degC On-Chip Reference, -40 to +105 degC, RU-14, Pb-Free, Tube; Generic Part Number: AD5628; Manufacturer: Analog Devices; PartNumber: AD5628BRUZ-1; # DAC Outputs: 8; Max V+: 5.5V; Op Pwr Diss: 12.5mW; Resolution (Bits): 12; Settling Time: 6µs; Single Supply: Yes; DatasheetVersion: Rev.F; PackageVersion: Aug-2002; PackageReference: RU-14; PackageDescription: 14-Lead Thin Shrink Small Outline Package [TSSOP]; Supplier 1: Digi-Key; Supplier Part Number 1: AD5628BRUZ-1-ND; Supplier 2: Farnell; Supplier Part Number 2: 2312786; Supplier 3: Newark; Supplier Part Number 3: 58R3885; Supplier 4: Mouser; Supplier Part Number 4: 584-AD5628BRUZ-1; Packing: Tube; RoHS: Y; Mounting Technology: Surface Mount; Code_JEDEC: MO-153-AB-1; ComponentLink1Description: Manufacturer URL; ComponentLink1URL: http://www.analog.com/en/index.html; ComponentLink2Description: Datasheet; ComponentLink2URL: http://www.analog.com/static/imported-files/data_sheets/AD5628_5648_5668.pdf; ComponentLink3Description: Package Specification; ComponentLink3URL: http://www.analog.com/static/imported-files/packages/36057385283879153717235186773RU14.pdf; ComponentLink4Description: Product URL; ComponentLink4URL: http://www.analog.com/en/digital-to-analog-converters/da-converters/ad5628/products/product.html
footprint RU-14_N (TSOP, 14-Leads, Body 5x4.4mm, Pitch 0.65mm, IPC Medium Density)
footprint RU-14_L (TSOP, 14-Leads, Body 5x4.4mm, Pitch 0.65mm, IPC High Density)
footprint RU-14_M (TSOP, 14-Leads, Body 5x4.4mm, Pitch 0.65mm, IPC Low Density)
pins: 1 ~{SYNC} (in) "Active Low Control Input. This is the frame synchronization signal for the input data. When S\Y\N\C\ goes low, it powers on the SCLK and DIN buffers and enables the input shift register. Data is transferred in on the falling (See Datasheet)", 2 VDD (power) "Power Supply Input. These parts can be operated from 2.7 V to 5.5 V, and the supply should be decoupled with a 10 µF capacitor in parallel with a 0.1 uF capacitor to GND.", 3 VOUTA (hiz) "Analog Output Voltage from DAC A. The output amplifier has rail-to-rail operation.", 4 VOUTC (hiz) "Analog Output Voltage from DAC C. The output amplifier has rail-to-rail operation.", 5 VOUTE (hiz) "Analog Output Voltage from DAC E. The output amplifier has rail-to-rail operation.", 6 VOUTG (hiz) "Analog Output Voltage from DAC G. The output amplifier has rail-to-rail operation.", 7 VREFIN/VREFOUT (io) "The AD5628 have a common pin for reference input and reference output. When using the internal reference, this is the reference output pin. When using an external reference, this is the reference input pin. The default for (See Datasheet)", 8 VOUTH (hiz) "Analog Output Voltage from DAC H. The output amplifier has rail-to-rail operation.", 9 VOUTF (hiz) "Analog Output Voltage from DAC F. The output amplifier has rail-to-rail operation.", 10 VOUTD (hiz) "Analog Output Voltage from DAC D. The output amplifier has rail-to-rail operation.", 11 VOUTB (hiz) "Analog Output Voltage from DAC B. The output amplifier has rail-to-rail operation.", 12 GND (power) "Ground Reference Point for All Circuitry on the Part.", 13 DIN (in) "Serial Data Input. This device has a 32-bit shift register. Data is clocked into the register on the falling edge of the serial clock input.", 14 SCLK (in) "Serial Clock Input. Data is clocked into the input shift register on the falling edge of the serial clock input. Data can be transferred at rates of up to 50 MHz."

## AD5628BRUZ-1REEL7
designator U?
Octal 12-Bit Voltage Output denseDAC with SPI Interface and 5 ppm/degC On-Chip Reference, -40 to +105 degC, RU-14, Pb-Free, Reel; Generic Part Number: AD5628; Manufacturer: Analog Devices; PartNumber: AD5628BRUZ-1REEL7; # DAC Outputs: 8; Max V+: 5.5V; Op Pwr Diss: 12.5mW; Resolution (Bits): 12; Settling Time: 6µs; Single Supply: Yes; DatasheetVersion: Rev.F; PackageVersion: Aug-2002; PackageReference: RU-14; PackageDescription: 14-Lead Thin Shrink Small Outline Package [TSSOP]; Supplier 1: Digi-Key; Supplier Part Number 1: AD5628BRUZ-1REEL7-ND; Supplier 2: Mouser; Supplier Part Number 2: 584-AD5628BRUZ-1R7; Packing: Reel; RoHS: Y; Mounting Technology: Surface Mount; Code_JEDEC: MO-153-AB-1; ComponentLink1Description: Manufacturer URL; ComponentLink1URL: http://www.analog.com/en/index.html; ComponentLink2Description: Datasheet; ComponentLink2URL: http://www.analog.com/static/imported-files/data_sheets/AD5628_5648_5668.pdf; ComponentLink3Description: Package Specification; ComponentLink3URL: http://www.analog.com/static/imported-files/packages/36057385283879153717235186773RU14.pdf; ComponentLink4Description: Product URL; ComponentLink4URL: http://www.analog.com/en/digital-to-analog-converters/da-converters/ad5628/products/product.html
footprint RU-14_N (TSOP, 14-Leads, Body 5x4.4mm, Pitch 0.65mm, IPC Medium Density)
footprint RU-14_L (TSOP, 14-Leads, Body 5x4.4mm, Pitch 0.65mm, IPC High Density)
footprint RU-14_M (TSOP, 14-Leads, Body 5x4.4mm, Pitch 0.65mm, IPC Low Density)
pins: 1 ~{SYNC} (in) "Active Low Control Input. This is the frame synchronization signal for the input data. When S\Y\N\C\ goes low, it powers on the SCLK and DIN buffers and enables the input shift register. Data is transferred in on the falling (See Datasheet)", 2 VDD (power) "Power Supply Input. These parts can be operated from 2.7 V to 5.5 V, and the supply should be decoupled with a 10 µF capacitor in parallel with a 0.1 uF capacitor to GND.", 3 VOUTA (hiz) "Analog Output Voltage from DAC A. The output amplifier has rail-to-rail operation.", 4 VOUTC (hiz) "Analog Output Voltage from DAC C. The output amplifier has rail-to-rail operation.", 5 VOUTE (hiz) "Analog Output Voltage from DAC E. The output amplifier has rail-to-rail operation.", 6 VOUTG (hiz) "Analog Output Voltage from DAC G. The output amplifier has rail-to-rail operation.", 7 VREFIN/VREFOUT (io) "The AD5628 have a common pin for reference input and reference output. When using the internal reference, this is the reference output pin. When using an external reference, this is the reference input pin. The default for (See Datasheet)", 8 VOUTH (hiz) "Analog Output Voltage from DAC H. The output amplifier has rail-to-rail operation.", 9 VOUTF (hiz) "Analog Output Voltage from DAC F. The output amplifier has rail-to-rail operation.", 10 VOUTD (hiz) "Analog Output Voltage from DAC D. The output amplifier has rail-to-rail operation.", 11 VOUTB (hiz) "Analog Output Voltage from DAC B. The output amplifier has rail-to-rail operation.", 12 GND (power) "Ground Reference Point for All Circuitry on the Part.", 13 DIN (in) "Serial Data Input. This device has a 32-bit shift register. Data is clocked into the register on the falling edge of the serial clock input.", 14 SCLK (in) "Serial Clock Input. Data is clocked into the input shift register on the falling edge of the serial clock input. Data can be transferred at rates of up to 50 MHz."

## AD5628BRUZ-2
designator U?
Octal 12-Bit Voltage Output denseDAC with SPI Interface and 5 ppm/degC On-Chip Reference, -40 to +105 degC, RU-16, Pb-Free, Tube; Generic Part Number: AD5628; Manufacturer: Analog Devices; PartNumber: AD5628BRUZ-2; # DAC Outputs: 8; Max V+: 5.5V; Op Pwr Diss: 12.5mW; Resolution (Bits): 12; Settling Time: 6µs; Single Supply: Yes; DatasheetVersion: Rev.F; PackageVersion: Nov-2002; PackageReference: RU-16; PackageDescription: 16-Lead Thin Shrink Small Outline Package [TSSOP]; Supplier 1: Digi-Key; Supplier Part Number 1: AD5628BRUZ-2-ND; Supplier 2: Farnell; Supplier Part Number 2: 1438921; Supplier 3: Newark; Supplier Part Number 3: 50M0809; Supplier 4: Mouser; Supplier Part Number 4: 584-AD5628BRUZ-2; Packing: Tube; RoHS: Y; Mounting Technology: Surface Mount; Code_JEDEC: MO-153-AB; ComponentLink1Description: Manufacturer URL; ComponentLink1URL: http://www.analog.com/en/index.html; ComponentLink2Description: Datasheet; ComponentLink2URL: http://www.analog.com/static/imported-files/data_sheets/AD5628_5648_5668.pdf; ComponentLink3Description: Package Specification; ComponentLink3URL: http://www.analog.com/static/imported-files/packages/36244347913743854010197452789RU16.pdf; ComponentLink4Description: Product URL; ComponentLink4URL: http://www.analog.com/en/digital-to-analog-converters/da-converters/ad5628/products/product.html
footprint RU-16_N (TSOP, 16-Leads, Body 5x4.4mm, Pitch 0.65mm, IPC Medium Density)
footprint RU-16_L (TSOP, 16-Leads, Body 5x4.4mm, Pitch 0.65mm, IPC High Density)
footprint RU-16_M (TSOP, 16-Leads, Body 5x4.4mm, Pitch 0.65mm, IPC Low Density)
pins: 1 ~{LDAC} (in) "Pulsing this pin low allows any or all DAC registers to be updated if the input registers have new data. This allows all DAC outputs to simultaneously update. Alternatively, this pin can be tied permanently low.", 2 ~{SYNC} (in) "Active Low Control Input. This is the frame synchronization signal for the input data.When S\Y\N\C\ goes low, it powers on the SCLK and DIN buffers and enables the input shift register. Data is transferred in on the falling (See Datasheet)", 3 VDD (power) "Power Supply Input. These parts can be operated from 2.7 V to 5.5 V, and the supply should be decoupled with a 10 µF capacitor in parallel with a 0.1 uF capacitor to GND.", 4 VOUTA (hiz) "Analog Output Voltage from DAC A. The output amplifier has rail-to-rail operation.", 5 VOUTC (hiz) "Analog Output Voltage from DAC C. The output amplifier has rail-to-rail operation.", 6 VOUTE (hiz) "Analog Output Voltage from DAC E. The output amplifier has rail-to-rail operation.", 7 VOUTG (hiz) "Analog Output Voltage from DAC G. The output amplifier has rail-to-rail operation.", 8 VREFIN/VREFOUT (io) "The AD5628 have a common pin for reference input and reference output. When using the internal reference, this is the reference output pin. When using an external reference, this is the reference input pin. The default for (See Datasheet)", 9 ~{CLR} (in) "Asynchronous Clear Input. The C\L\R\ input is falling edge sensitive. When C\L\R\ is low, all L\D\A\C\ pulses are ignored. When C\L\R\ is activated, the input register and the DAC register are updated with the data contained (See Datasheet)", 10 VOUTH (hiz) "Analog Output Voltage from DAC H. The output amplifier has rail-to-rail operation.", 11 VOUTF (hiz) "Analog Output Voltage from DAC F. The output amplifier has rail-to-rail operation.", 12 VOUTD (hiz) "Analog Output Voltage from DAC D. The output amplifier has rail-to-rail operation.", 13 VOUTB (hiz) "Analog Output Voltage from DAC B. The output amplifier has rail-to-rail operation.", 14 GND (power) "Ground Reference Point for All Circuitry on the Part.", 15 DIN (in) "Serial Data Input. This device has a 32-bit shift register. Data is clocked into the register on the falling edge of the serial clock input.", 16 SCLK (in) "Serial Clock Input. Data is clocked into the input shift register on the falling edge of the serial clock input. Data can be transferred at rates of up to 50 MHz."

## AD5628BRUZ-2REEL7
designator U?
Octal 12-Bit Voltage Output denseDAC with SPI Interface and 5 ppm/degC On-Chip Reference, -40 to +105 degC, RU-16, Pb-Free, Reel; Generic Part Number: AD5628; Manufacturer: Analog Devices; PartNumber: AD5628BRUZ-2REEL7; # DAC Outputs: 8; Max V+: 5.5V; Op Pwr Diss: 12.5mW; Resolution (Bits): 12; Settling Time: 6µs; Single Supply: Yes; DatasheetVersion: Rev.F; PackageVersion: Nov-2002; PackageReference: RU-16; PackageDescription: 16-Lead Thin Shrink Small Outline Package [TSSOP]; Supplier 1: Digi-Key; Supplier Part Number 1: AD5628BRUZ-2REEL7-ND; Supplier 2: Mouser; Supplier Part Number 2: 584-AD5628BRUZ-2R7; Packing: Reel; RoHS: Y; Mounting Technology: Surface Mount; Code_JEDEC: MO-153-AB; ComponentLink1Description: Manufacturer URL; ComponentLink1URL: http://www.analog.com/en/index.html; ComponentLink2Description: Datasheet; ComponentLink2URL: http://www.analog.com/static/imported-files/data_sheets/AD5628_5648_5668.pdf; ComponentLink3Description: Package Specification; ComponentLink3URL: http://www.analog.com/static/imported-files/packages/36244347913743854010197452789RU16.pdf; ComponentLink4Description: Product URL; ComponentLink4URL: http://www.analog.com/en/digital-to-analog-converters/da-converters/ad5628/products/product.html
footprint RU-16_N (TSOP, 16-Leads, Body 5x4.4mm, Pitch 0.65mm, IPC Medium Density)
footprint RU-16_L (TSOP, 16-Leads, Body 5x4.4mm, Pitch 0.65mm, IPC High Density)
footprint RU-16_M (TSOP, 16-Leads, Body 5x4.4mm, Pitch 0.65mm, IPC Low Density)
pins: 1 ~{LDAC} (in) "Pulsing this pin low allows any or all DAC registers to be updated if the input registers have new data. This allows all DAC outputs to simultaneously update. Alternatively, this pin can be tied permanently low.", 2 ~{SYNC} (in) "Active Low Control Input. This is the frame synchronization signal for the input data.When S\Y\N\C\ goes low, it powers on the SCLK and DIN buffers and enables the input shift register. Data is transferred in on the falling (See Datasheet)", 3 VDD (power) "Power Supply Input. These parts can be operated from 2.7 V to 5.5 V, and the supply should be decoupled with a 10 µF capacitor in parallel with a 0.1 uF capacitor to GND.", 4 VOUTA (hiz) "Analog Output Voltage from DAC A. The output amplifier has rail-to-rail operation.", 5 VOUTC (hiz) "Analog Output Voltage from DAC C. The output amplifier has rail-to-rail operation.", 6 VOUTE (hiz) "Analog Output Voltage from DAC E. The output amplifier has rail-to-rail operation.", 7 VOUTG (hiz) "Analog Output Voltage from DAC G. The output amplifier has rail-to-rail operation.", 8 VREFIN/VREFOUT (io) "The AD5628 have a common pin for reference input and reference output. When using the internal reference, this is the reference output pin. When using an external reference, this is the reference input pin. The default for (See Datasheet)", 9 ~{CLR} (in) "Asynchronous Clear Input. The C\L\R\ input is falling edge sensitive. When C\L\R\ is low, all L\D\A\C\ pulses are ignored. When C\L\R\ is activated, the input register and the DAC register are updated with the data contained (See Datasheet)", 10 VOUTH (hiz) "Analog Output Voltage from DAC H. The output amplifier has rail-to-rail operation.", 11 VOUTF (hiz) "Analog Output Voltage from DAC F. The output amplifier has rail-to-rail operation.", 12 VOUTD (hiz) "Analog Output Voltage from DAC D. The output amplifier has rail-to-rail operation.", 13 VOUTB (hiz) "Analog Output Voltage from DAC B. The output amplifier has rail-to-rail operation.", 14 GND (power) "Ground Reference Point for All Circuitry on the Part.", 15 DIN (in) "Serial Data Input. This device has a 32-bit shift register. Data is clocked into the register on the falling edge of the serial clock input.", 16 SCLK (in) "Serial Clock Input. Data is clocked into the input shift register on the falling edge of the serial clock input. Data can be transferred at rates of up to 50 MHz."